# Altium schematic symbol library 653003113322.SchLib: 1 symbol
Pins are listed as number, name and electrical type; pins without a type are passive.

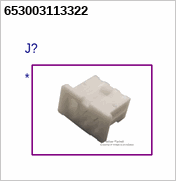
[diagram p0: symbol 653003113322]

## 653003113322
designator J?  (mechanical)